# Altium schematic symbol library EEEFT1H470AP.SchLib: 1 symbol
Pins are listed as number, name and electrical type; pins without a type are passive.

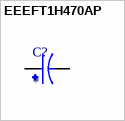
[diagram p0: symbol EEEFT1H470AP]

## EEEFT1H470AP
designator C?
47ÂµF 50V Aluminum Electrolytic Capacitors Radial, Can - SMD 680mOhm @ 100kHz 2000 Hrs @ 105Â°C; MF: Panasonic; MP: EEEFT1H470AP; SnapEDA_Link: https://www.snapeda.com/parts/EEEFT1H470AP/Panasonic/view-part/?ref=snap; Package: RADIAL-2 Panasonic; Value: *; Check_prices: https://www.snapeda.com/parts/EEEFT1H470AP/Panasonic/view-part/?ref=eda
footprint CAP_EEEFT1H470AP
pins: 1, 2